# Altium integrated library Nexperia-74AHC.IntLib: 3 symbols
Pins are listed as number, name and electrical type; pins without a type are passive.

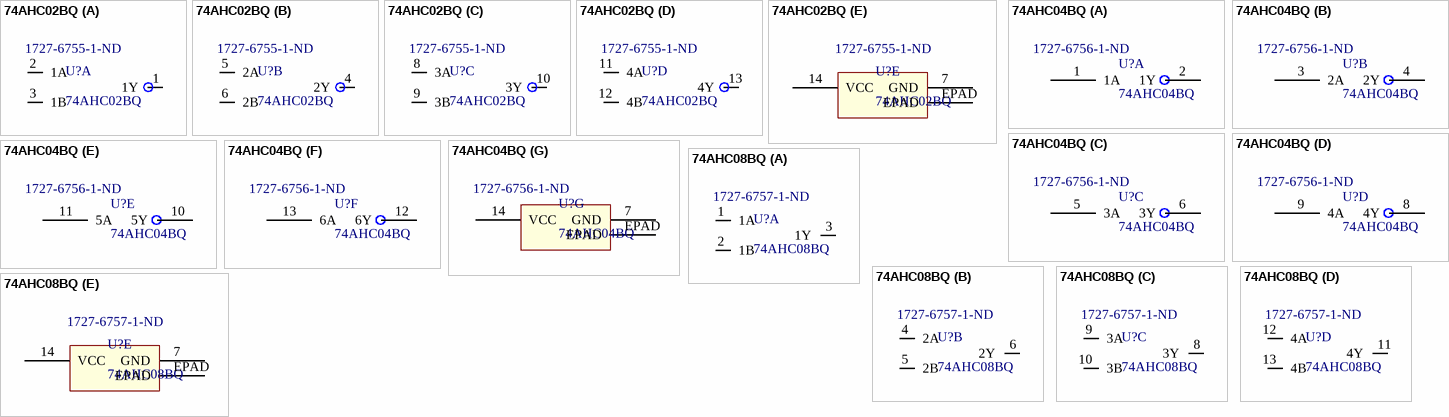
[diagram p0: symbols 74AHC02BQ to 74AHC08BQ]

## 74AHC02BQ
designator U?  Supplier Part Number 1: 1727-6755-1-ND
Nexperia 74AHC02BQ / It provides the quad 2-input NOR function.; Supplier 1: Digi-Key
footprint DHVQFN14 (plastic dual in-line compatible thermal enhanced very thin quad flat package; no leads;  14 terminals; body 2.5 x 3 x 0.85 mm)
footprint DHVQFN14-HighDennsity (plastic dual in-line compatible thermal enhanced very thin quad flat package; no leads;  14 terminals; body 2.5 x 3 x 0.85 mm)
part A pins: 1 1Y, 2 1A, 3 1B
part B pins: 4 2Y, 5 2A, 6 2B
part C pins: 8 3A, 9 3B, 10 3Y
part D pins: 11 4A, 12 4B, 13 4Y
part E pins: 7 GND, 14 VCC, EPAD

## 74AHC04BQ
designator U?  Supplier Part Number 1: 1727-6756-1-ND
Nexperia 74AHC04BQ / It provides six inverting buffers.; Supplier 1: Digi-Key
footprint DHVQFN14 (plastic dual in-line compatible thermal enhanced very thin quad flat package; no leads;  14 terminals; body 2.5 x 3 x 0.85 mm)
footprint DHVQFN14-HighDennsity (plastic dual in-line compatible thermal enhanced very thin quad flat package; no leads;  14 terminals; body 2.5 x 3 x 0.85 mm)
part A pins: 1 1A, 2 1Y
part B pins: 3 2A, 4 2Y
part C pins: 5 3A, 6 3Y
part D pins: 8 4Y, 9 4A
part E pins: 10 5Y, 11 5A
part F pins: 12 6Y, 13 6A
part G pins: 7 GND, 14 VCC, EPAD

## 74AHC08BQ
designator U?  Supplier Part Number 1: 1727-6757-1-ND
Nexperia 74AHC08BQ / It provides the quad 2-input AND function.; Supplier 1: Digi-Key
footprint DHVQFN14 (plastic dual in-line compatible thermal enhanced very thin quad flat package; no leads;  14 terminals; body 2.5 x 3 x 0.85 mm)
footprint DHVQFN14-HighDennsity (plastic dual in-line compatible thermal enhanced very thin quad flat package; no leads;  14 terminals; body 2.5 x 3 x 0.85 mm)
part A pins: 1 1A, 2 1B, 3 1Y
part B pins: 4 2A, 5 2B, 6 2Y
part C pins: 8 3Y, 9 3A, 10 3B
part D pins: 11 4Y, 12 4A, 13 4B
part E pins: 7 GND, 14 VCC, EPAD